# EAGLE library part FDC6312P (library bytewerk-transistor)
Dual P-Channel FET Vds=-20V Vgs=8V
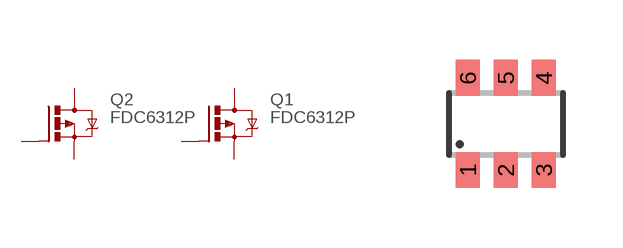
[diagram p0: symbol with the pads of SOT23-6; footprint SOT23-6]

Designator prefix Q; gates 1=MOSFET-PCHANNEL 2=MOSFET-PCHANNEL

## FDC6312P (MF: FAIRCHILD SEMICONDUCTOR; MPN: FDC6312P; OC_FARNELL: 1700713)  [SOT23-6]
1  1:G  pas
2  2:S  pas
3  2:G  pas
4  2:D  pas
5  1:S  pas
6  1:D  pas

## Footprint SOT23-6 (pad centres in mm)
smd 0.6 x 0.9: 1 -0.95,-1.15; 2 0,-1.15; 3 0.95,-1.15; 4 0.95,1.15; 5 0,1.15; 6 -0.95,1.15